# Altium schematic symbol library R.Schlib: 1 symbol
Pins are listed as number, name and electrical type; pins without a type are passive.

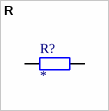
[diagram p0: symbol R]

## R
designator R?
Resistor; ID: *; PRICE: *; BUY_LINK: *; PDF: *
footprint R0402
footprint R1206
footprint R0805
footprint R0603
footprint R1812
footprint R1210
footprint 253-4_VTM
pins: 1, 2